# Altium schematic symbol library CBR06C259B5GAC.SchLib: 2 symbols
Pins are listed as number, name and electrical type; pins without a type are passive.

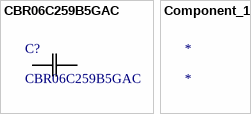
[diagram p0: symbols CBR06C259B5GAC to Component_1]

## CBR06C259B5GAC
designator C?
No Description Available; Mfr_Name: Kemet; Type: DEV; Copyright: Copyright (C) 2022 Ultra Librarian. All rights reserved.; Manufacturer_Part_Number: CBR06C259B5GAC; RefDes: RefDes
footprint CAPC17090_87N_KEM
pins: 1, 2

## Component_1
designator *